# Altium footprint library JS7628_base_board_v1.5.1.PcbLib: 34 footprints (part 2 of 3)
Each footprint in its own frame and in the unit in brackets; x right, y up, seen from the top. Pads: shape width x height; smd on the part's side, far side on the other; paste and mask are expansions set on the pad; w line width, h text height; cw(c..) or ccw(c..) is an arc to the next point about the centre after c.
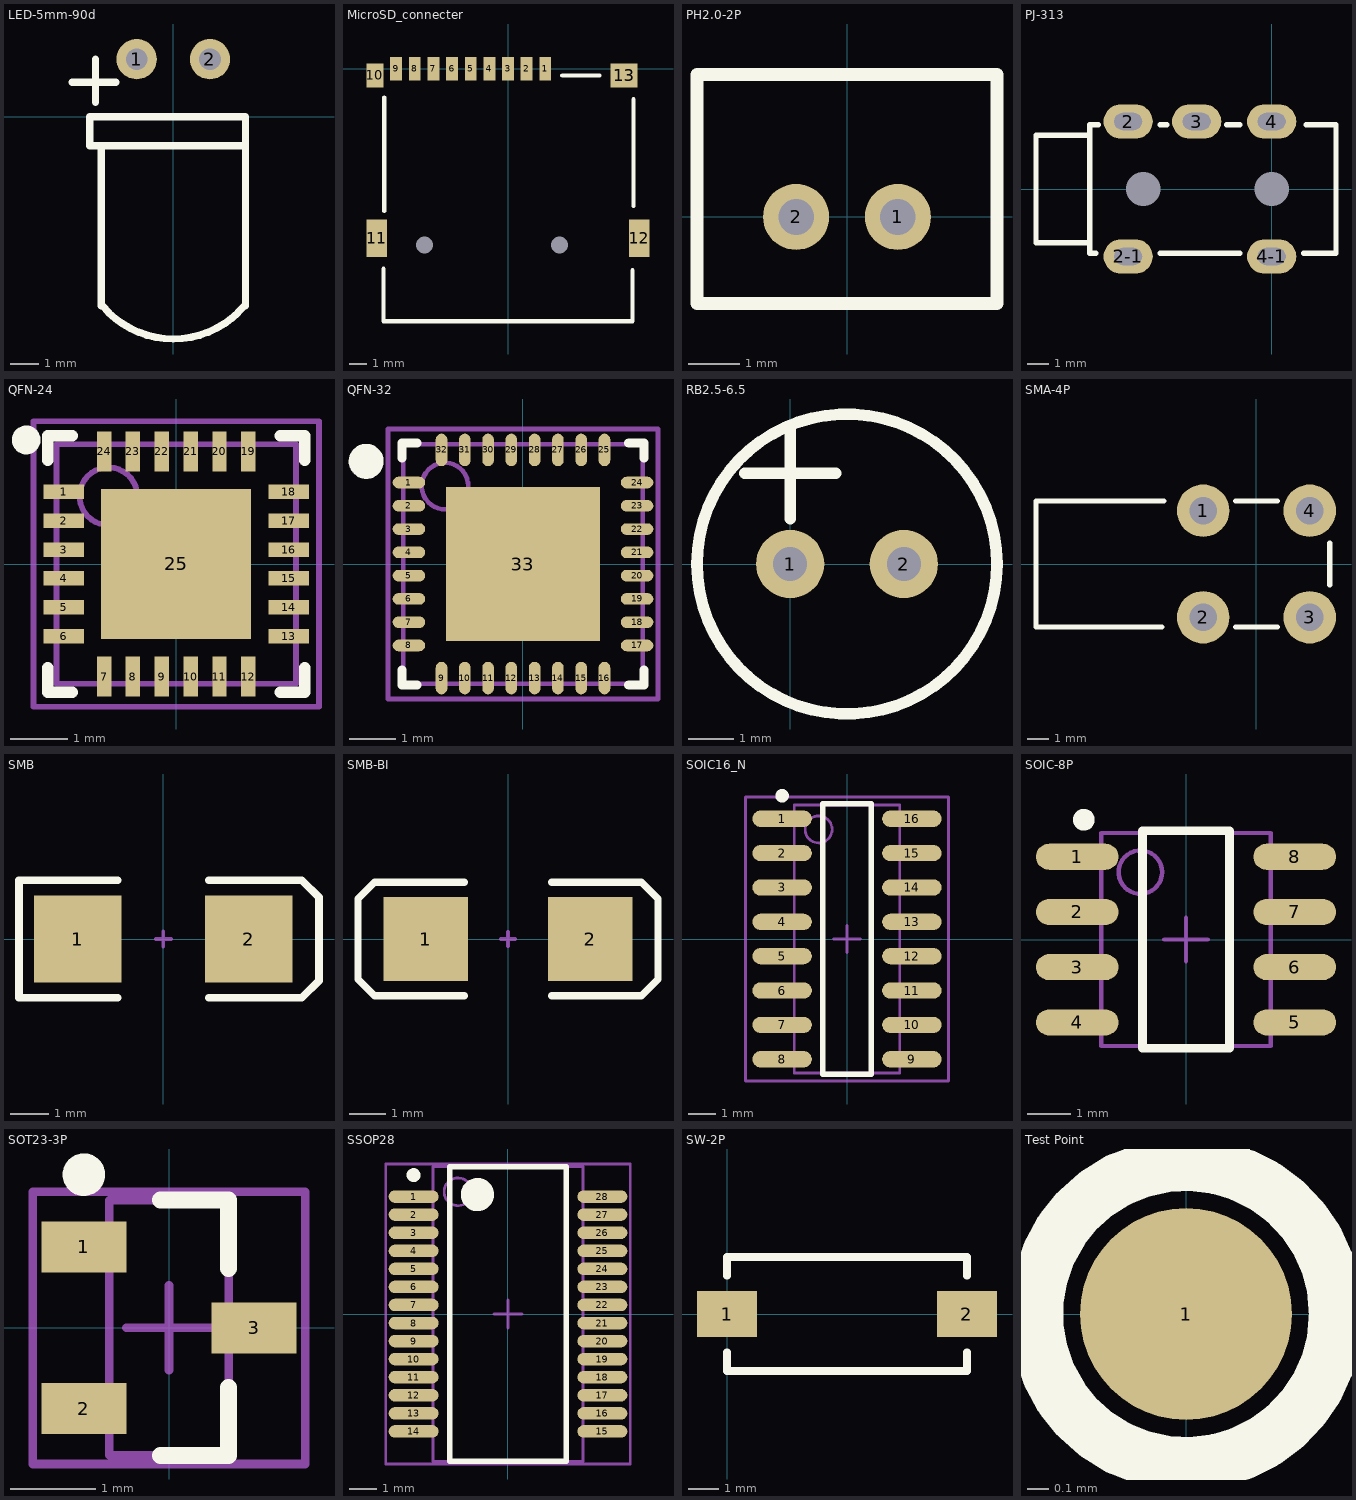
[diagram p1: the footprints below, top view; thin cyan lines are the x and y axes]

## LED-5mm-90d [mm]
pads (2):
  round 1.4 hole 0.75: 1(-1.27,2) 2(1.27,2)
Top Overlay:
  lines w0.254: -3.5,1.2 -2,1.2 ; -2.7,0.5 -2.7,2 ; -2.5,-6.558 -2.5,-1 ; -2.45,-6.558 ccw(c0,-4.5) 2.45,-6.558 ; 2.5,-6.558 2.5,-1 ; 2.5,-1 2.5,0 -2.9,0 -2.9,-1 2.5,-1
3D body: height 6, standoff 0, extent -2.9,-1 2.5,0
3D body: height 6, standoff 0, extent -2.5,-7.8 2.5,-1.1

## MicroSD_connecter [mm]
pads (15):
  rect 0.7x1.4 smd: 1(2.2,0) 2(1.1,0) 3(0,0) 4(-1.1,0) 5(-2.2,0) 6(-3.3,0) 7(-4.4,0) 8(-5.5,0) 9(-6.6,0)
  rect 1x1.4 smd: 10(-7.85,-0.4)
  rect 1.2x2.2 smd: 11(-7.75,-10) 12(7.75,-10)
  rect 1.6x1.4 smd: 13(6.85,-0.4)
  rect 0x0 hole 1: MH1(-4.93,-10.4) MH2(3.05,-10.4)
Top Overlay:
  lines w0.254: -7.35,-11.8 -7.35,-14.9 7.35,-14.9 7.35,-11.9 ; -7.3,-8.4 -7.3,-1.7 ; 3.2,-0.4 5.4,-0.4 ; 7.4,-8.1 7.4,-1.8
3D body: height 2.45, standoff 0, extent -7.3,-14.9 7.4,-0.4

## PH2.0-2P [mm]
pads (2):
  round 1.3 hole 0.7: 1(1,0) 2(-1,0)
Top Overlay:
  lines w0.254: -2.95,-1.7 -2.95,2.8 2.95,2.8 2.95,-1.7 -2.95,-1.7
3D body: height 6, standoff 0, extent -2.9,-1.7 2.9,2.8

## PJ-313 [mm]
height 5
pads (7):
  oval 2.3x1.6 hole 0.8 slot 1.3 at 0 deg: 2(-6.7,3.15) 2-1(-6.7,-3.15) 3(-3.5,3.15) 4(0,3.15) 4-1(0,-3.15)
  rect 0x0 hole 1.6: H1(-6,0) H2(0,0)
Top Overlay:
  lines w0.254: -8.5,-2.5 -11,-2.5 -11,2.5 -8.5,2.5 ; -8.2,-3 -8.5,-3 -8.5,3 -8.1,3 ; -5.2,-3 -1.5,-3 ; -5.2,3 -4.9,3 ; -2.1,3 -1.5,3 ; 1.5,-3 3,-3 3,3 1.6,3
3D body: height 5, standoff 0, extent -11,-2.5 -8.5,2.5
3D body: height 5, standoff 0, extent -8.5,-3 3,3

## QFN-24 [mm]
pads (25):
  rect 0.7x0.25 smd: 1(-1.95,1.25) 2(-1.95,0.75) 3(-1.95,0.25) 4(-1.95,-0.25) 5(-1.95,-0.75) 6(-1.95,-1.25) 13(1.95,-1.25) 14(1.95,-0.75) 15(1.95,-0.25) 16(1.95,0.25) 17(1.95,0.75) 18(1.95,1.25)
  rect 0.25x0.7 smd: 7(-1.25,-1.95) 8(-0.75,-1.95) 9(-0.25,-1.95) 10(0.25,-1.95) 11(0.75,-1.95) 12(1.25,-1.95) 19(1.25,1.95) 20(0.75,1.95) 21(0.25,1.95) 22(-0.25,1.95) 23(-0.75,1.95) 24(-1.25,1.95)
  rect 2.6x2.6 smd paste-1.3: 25(0,0)
Top Overlay:
  circle w0.25: c-2.6,2.15 r0.125
  lines w0.2: -2.225,-1.8 -2.225,-2.225 -1.8,-2.225 ; -2.225,1.8 -2.225,2.225 -1.8,2.225 ; 1.8,-2.225 2.225,-2.225 2.225,-1.8 ; 1.8,2.225 2.225,2.225 2.225,1.8
Top Paste:
  rectangle: 0.1,-1.2 1.2,-0.1
  region: -0.1,-0.1 -1.2,-0.1 -1.2,-1.2 -0.1,-1.2
  region: -0.1,1.2 -1.2,1.2 -1.2,0.1 -0.1,0.1
  rectangle: 0.1,0.1 1.2,1.2
Mechanical 13:
  circle w0.1: c-1.175,1.175 r0.5
  lines w0.1: -2.075,-2.075 -2.075,2.075 2.075,2.075 2.075,-2.075 -2.075,-2.075
Mechanical 15:
  lines w0.1: -0.5,0 0.5,0 ; 0,-0.5 0,0.5 ; -2.475,-2.475 2.475,-2.475 2.475,2.475 -2.475,2.475 -2.475,-2.475
3D body: height 0.75, standoff 0, extent -2.074,-2.074 2.074,2.074

## QFN-32 [mm]
height 9
pads (33):
  oval 0.7x0.25 smd: 1(-2.45,1.75) 2(-2.45,1.25) 3(-2.45,0.75) 4(-2.45,0.25) 5(-2.45,-0.25) 6(-2.45,-0.75) 7(-2.45,-1.25) 8(-2.45,-1.75) 17(2.45,-1.75) 18(2.45,-1.25) 19(2.45,-0.75) 20(2.45,-0.25) 21(2.45,0.25) 22(2.45,0.75) 23(2.45,1.25) 24(2.45,1.75)
  oval 0.25x0.7 smd: 9(-1.75,-2.45) 10(-1.25,-2.45) 11(-0.75,-2.45) 12(-0.25,-2.45) 13(0.25,-2.45) 14(0.75,-2.45) 15(1.25,-2.45) 16(1.75,-2.45) 25(1.75,2.45) 26(1.25,2.45) 27(0.75,2.45) 28(0.25,2.45) 29(-0.25,2.45) 30(-0.75,2.45) 31(-1.25,2.45) 32(-1.75,2.45)
  rect 3.3x3.3 smd: 33(0,0)
Top Overlay:
  lines w0.2: -2.6,-2.275 -2.6,-2.6 -2.275,-2.6 ; -2.6,2.275 -2.6,2.6 -2.275,2.6 ; 2.275,-2.6 2.6,-2.6 2.6,-2.275 ; 2.275,2.6 2.6,2.6 2.6,2.275
  lines w0.4: -3.2,2.25 ccw(c-3.369,2.205) -3.194,2.205
Mechanical 13:
  circle w0.1: c-1.675,1.675 r0.5
  lines w0.1: -2.575,-2.575 -2.575,2.575 2.575,2.575 2.575,-2.575 -2.575,-2.575
Mechanical 15:
  lines w0.1: -0.5,0 0.5,0 ; 0,-0.5 0,0.5 ; -2.9,-2.9 -2.9,2.9 2.9,2.9 2.9,-2.9 -2.9,-2.9
3D body: height 0.8, standoff 0, extent -2.575,-2.575 2.575,2.575

## RB2.5-6.5 [mm]
pads (2):
  round 1.5 hole 0.75: 1(0,0) 2(2.5,0)
Top Overlay:
  circle w0.254: c1.25,0 r3.3
  lines w0.254: -1,2 1,2 ; 0,1 0,3
3D body: height 8, standoff 0, extent -2.06,-3.31 4.56,3.31

## SMA-4P [mm]
pads (4):
  round 2.5 hole 1.3: 1(-2.54,2.54) 2(-2.54,-2.54) 3(2.54,-2.54) 4(2.54,2.54)
Top Overlay:
  lines w0.254: -4.5,-3 -10.5,-3 -10.5,3 -4.4,3 ; -1,-3 1,-3 ; -1,3 1,3 ; 3.5,-1 3.5,1
3D body: height 10, standoff 0, extent -10.5,-3 3.5,3

## SMB [mm]
pads (2):
  rect 2.3x2.3 smd: 1(-2.25,0) 2(2.25,0)
Top Overlay:
  lines w0.2: -1.2,-1.55 -3.8,-1.55 -3.8,1.55 -1.2,1.55 ; 1.2,-1.55 3.65,-1.55 4.1,-1.1 4.1,1.1 3.65,1.55 1.2,1.55
Mechanical 1:
  lines w0.1: -0.2,0 0.2,0 ; 0,-0.2 0,0.2

## SMB-BI [mm]
pads (2):
  rect 2.3x2.3 smd: 1(-2.25,0) 2(2.25,0)
Top Overlay:
  lines w0.2: -1.2,-1.55 -3.65,-1.55 -4.1,-1.1 -4.1,1.1 -3.65,1.55 -1.2,1.55 ; 1.2,-1.55 3.65,-1.55 4.1,-1.1 4.1,1.1 3.65,1.55 1.2,1.55
Mechanical 1:
  lines w0.1: -0.2,0 0.2,0 ; 0,-0.2 0,0.2

## SOIC16_N [mm]
pads (16):
  oval 2.2x0.6 smd: 1(-2.4,4.445) 2(-2.4,3.175) 3(-2.4,1.905) 4(-2.4,0.635) 5(-2.4,-0.635) 6(-2.4,-1.905) 7(-2.4,-3.175) 8(-2.4,-4.445) 9(2.4,-4.445) 10(2.4,-3.175) 11(2.4,-1.905) 12(2.4,-0.635) 13(2.4,0.635) 14(2.4,1.905) 15(2.4,3.175) 16(2.4,4.445)
Top Overlay:
  circle w0.25: c-2.4,5.295 r0.125
  lines w0.2: -0.9,-5 0.9,-5 0.9,5 -0.9,5 -0.9,-5
Mechanical 13:
  circle w0.1: c-1.05,4.05 r0.5
  lines w0.1: -1.95,-4.95 1.95,-4.95 1.95,4.95 -1.95,4.95 -1.95,-4.95
Mechanical 15:
  lines w0.1: -0.5,0 0.5,0 ; 0,-0.5 0,0.5 ; -3.75,-5.25 3.75,-5.25 3.75,5.25 -3.75,5.25 -3.75,-5.25
3D body: height 1.75, standoff 0, extent -1.95,-4.95 1.95,4.95

## SOIC-8P [mm]
pads (8):
  oval 1.9x0.6 smd: 1(-2.5,1.905) 2(-2.5,0.635) 3(-2.5,-0.635) 4(-2.5,-1.905) 5(2.5,-1.905) 6(2.5,-0.635) 7(2.5,0.635) 8(2.5,1.905)
Top Overlay:
  circle w0.25: c-2.35,2.755 r0.125
  lines w0.2: -1,-2.5 1,-2.5 1,2.5 -1,2.5 -1,-2.5
Mechanical 13:
  circle w0.1: c-1.05,1.55 r0.5
  lines w0.1: -1.95,-2.45 1.95,-2.45 1.95,2.45 -1.95,2.45 -1.95,-2.45
Mechanical 15:
  lines w0.1: -0.5,0 0.5,0 ; 0,-0.5 0,0.5
3D body: height 1.75, standoff 0, extent -1.95,-2.45 1.95,2.45

## SOT23-3P [mm]
pads (3):
  rect 1x0.6 smd: 1(-1,0.95) 2(-1,-0.95) 3(1,0)
Top Overlay:
  circle w0.25: c-1,1.8 r0.125
  lines w0.2: -0.1,-1.5 0.7,-1.5 0.7,-0.7 ; -0.1,1.5 0.7,1.5 0.7,0.7
Mechanical 13:
  lines w0.1: -0.7,-1.5 -0.7,1.5 0.7,1.5 0.7,-1.5 -0.7,-1.5
Mechanical 15:
  lines w0.1: -0.5,0 0.5,0 ; 0,-0.5 0,0.5 ; -1.6,-1.6 -1.6,1.6 1.6,1.6 1.6,-1.6 -1.6,-1.6
3D body: height 1.2, standoff 0, extent -0.7,-1.5 0.7,1.5

## SSOP28 [mm]
pads (28):
  oval 1.8x0.45 smd: 1(-3.4,4.225) 2(-3.4,3.575) 3(-3.4,2.925) 4(-3.4,2.275) 5(-3.4,1.625) 6(-3.4,0.975) 7(-3.4,0.325) 8(-3.4,-0.325) 9(-3.4,-0.975) 10(-3.4,-1.625) 11(-3.4,-2.275) 12(-3.4,-2.925) 13(-3.4,-3.575) 14(-3.4,-4.225) 15(3.4,-4.225) 16(3.4,-3.575) 17(3.4,-2.925) 18(3.4,-2.275) 19(3.4,-1.625) 20(3.4,-0.975) 21(3.4,-0.325) 22(3.4,0.325) 23(3.4,0.975) 24(3.4,1.625) 25(3.4,2.275) 26(3.4,2.925) 27(3.4,3.575) 28(3.4,4.225)
Top Overlay:
  circle w0.6: c-1.1,4.3 r0.3
  circle w0.25: c-3.4,5 r0.125
  lines w0.2: -2.1,-5.3 2.1,-5.3 2.1,5.3 -2.1,5.3 -2.1,-5.3
Mechanical 13:
  circle w0.1: c-1.8,4.4 r0.5
  lines w0.1: -2.7,-5.3 2.7,-5.3 2.7,5.3 -2.7,5.3 -2.7,-5.3
Mechanical 15:
  lines w0.1: -0.5,0 0.5,0 ; 0,-0.5 0,0.5 ; -4.4,-5.4 4.4,-5.4 4.4,5.4 -4.4,5.4 -4.4,-5.4
3D body: height 1.99, standoff 0, extent -2.7,-5.3 2.7,5.3

## SW-2P [mm] "SMT"
pads (2):
  rect 2x1.524 smd: 1(0,0) 2(8,0)
Top Overlay:
  lines w0.254: 0,-1.27 0,-1.9 8,-1.9 8,-1.271 ; 0,1.27 0,1.9 8,1.9 8,1.271

## Test Point [mm]
pads (1):
  round 1 smd paste+0: 1(0,0)
Top Overlay:
  circle w0.254: c0,0 r0.707